# EAGLE library part PINEBOOK-PRO-EXPANSION-CONNECTOR (library pinebook_parts)
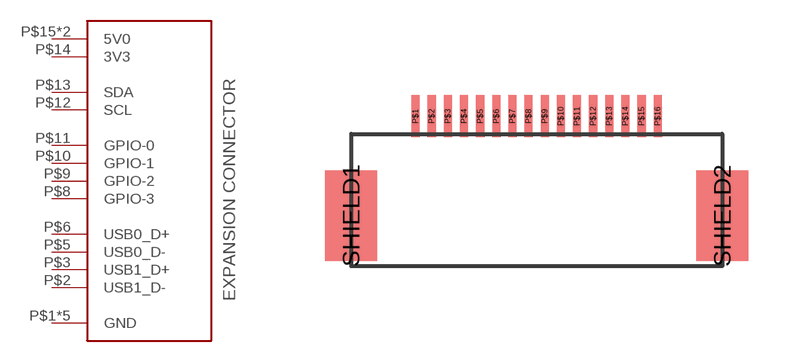
[diagram p2: symbol with the pads of FPC-C528044; footprint FPC-C528044]

Designator prefix -

## PINEBOOK-PRO-EXPANSION-CONNECTOR  [FPC-C528044]
P$1  GND
P$2  USB1_D-
P$3  USB1_D+
P$4  GND
P$5  USB0_D-
P$6  USB0_D+
P$7  GND
P$8  GPIO-3
P$9  GPIO-2
P$10  GPIO-1
P$11  GPIO-0
P$12  SCL
P$13  SDA
P$14  3V3
P$15  5V0
P$16  5V0
SHIELD1  GND
SHIELD2  GND

## Footprint FPC-C528044 (pad centres in mm)
smd 0.25 x 1.3: P$1 -3.75,0.65; P$2 -3.25,0.65; P$3 -2.75,0.65; P$4 -2.25,0.65; P$5 -1.75,0.65; P$6 -1.25,0.65; P$7 -0.75,0.65; P$8 -0.25,0.65; P$9 0.25,0.65; P$10 0.75,0.65; P$11 1.25,0.65; P$12 1.75,0.65; P$13 2.25,0.65; P$14 2.75,0.65; P$15 3.25,0.65; P$16 3.75,0.65
smd 1.6 x 2.8: SHIELD1 -5.75,-2.43; SHIELD2 5.75,-2.43